# EAGLE library part TIBB (library tibb)
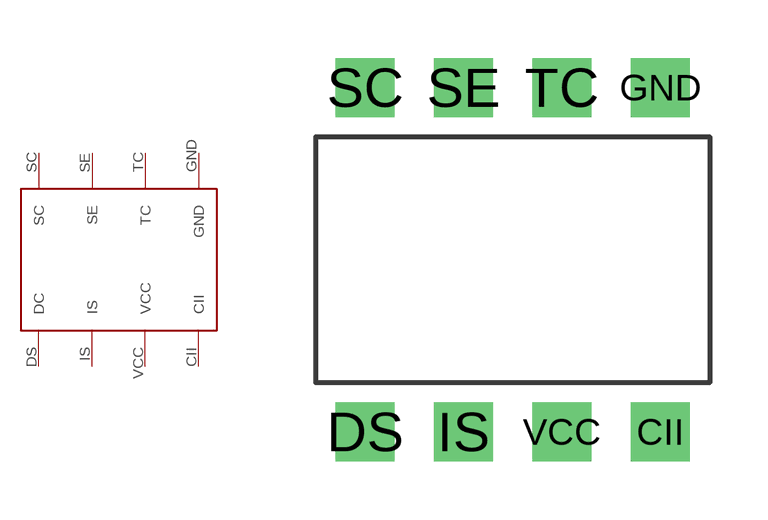
[diagram p0: symbol with the pads of TIBB; footprint TIBB]

Designator prefix -

## TIBB  [TIBB]
CII  CII
DS  DC
GND  GND
IS  IS
SC  SC
SE  SE
TC  TC
VCC  VCC

## Footprint TIBB (pad centres in mm)
drill 1.016 square: CII 5.08,-5.08; DS -2.54,-5.08; GND 5.08,3.81; IS 0,-5.08; SC -2.54,3.81; SE 0,3.81; TC 2.54,3.81; VCC 2.54,-5.08